# Altium schematic symbol library Wuerth_Elektronik_750311457.SchLib: 1 symbol
Pins are listed as number, name and electrical type; pins without a type are passive.

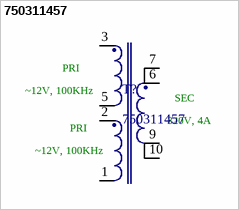
[diagram p0: symbol 750311457]

## 750311457
designator T?
Flyback Transformer suitable or LT3573/ LT3574/ LT3575/ LT3748 WE-FB, Ui=36V; Manufacturer: Wuerth Elektronik; Ui: 36V; ComponentLink1Description: Manufacturer URL; ComponentLink2Description: Datasheet; ComponentLink1URL: http://www.we-online.com; PartNumber: 750311457; PackageReference: EP13; ComponentLink2URL: http://katalog.we-online.de/pbs/datasheet/750311457.pdf
footprint EP13
footprint Transformer
pins: 1, 2, 3, 5, 6, 7, 9, 10
text: PRI; ~12V, 100KHz; SEC; 320V, 4A